# EAGLE library part FLIPPER-GPIO-8 (library flipper-gpio)
Flipper Zero 8-pin GPIO connector See Measures layer in Board view for mechanical dimensions of the board outline and how it relates to this header. The Flipper_GPIO_Dimension (100) layer in Board view contains a pre-made outline that matches the Flipper Zero documentation. This can be included as the board outline, but be sure that these exactly line up with the existing outline! See Info layer in Schematic view for table of all of the pin MUX settings.
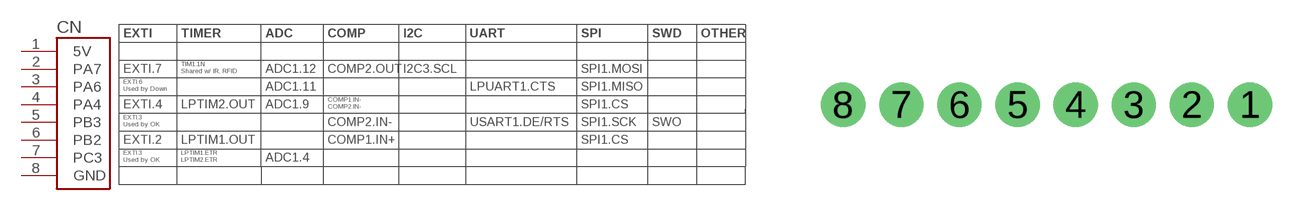
[diagram p3: symbol with the pads of FLIPPER-GPIO-8; footprint FLIPPER-GPIO-8]

Designator prefix CN

## FLIPPER-GPIO-8  [FLIPPER-GPIO-8]
1  5V
2  PA7
3  PA6
4  PA4
5  PB3
6  PB2
7  PC3
8  GND

## Footprint FLIPPER-GPIO-8 (pad centres in mm)
Flipper Zero 8-pin GPIO connector See Measures layer for mechanical dimensions of the board outline and how it relates to this header. The Flipper_GPIO_Dimension (100) layer contains a pre-made outline that matches the Flipper Zero documentation. This can be included as the board outline, but be sure that these exactly line up with the existing outline!
drill 1.016 pad 1.93: 1 0,0; 2 -2.54,0; 3 -5.08,0; 4 -7.62,0; 5 -10.16,0; 6 -12.7,0; 7 -15.24,0; 8 -17.78,0